# EAGLE library part CON_01X26 (library PP_Connectors)
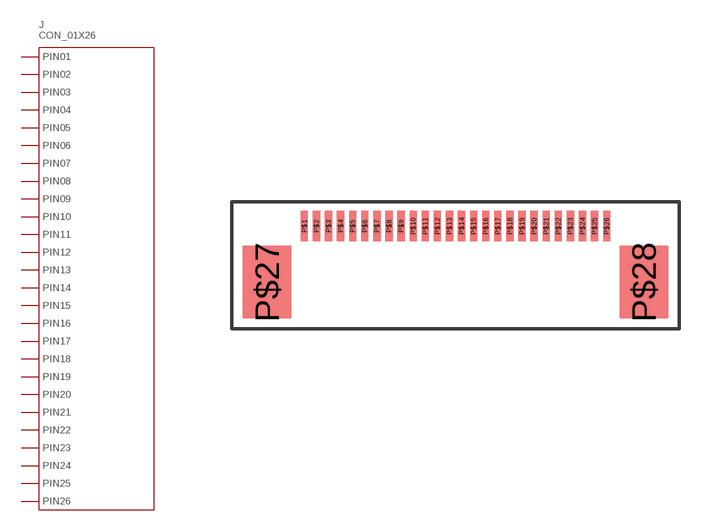
[diagram p33: symbol with the pads of ER-CON26HT-1; footprint ER-CON26HT-1]

Designator prefix J

## CON_01X26_ER-CON26HT-1  [ER-CON26HT-1]
P$1  1
P$2  2
P$3  3
P$4  4
P$5  5
P$6  6
P$7  7
P$8  8
P$9  9
P$10  10
P$11  11
P$12  12
P$13  13
P$14  14
P$15  15
P$16  16
P$17  17
P$18  18
P$19  19
P$20  20
P$21  21
P$22  22
P$23  23
P$24  24
P$25  25
P$26  26

## Footprint ER-CON26HT-1 (pad centres in mm)
smd 0.3 x 1.25: P$1 -6.25,0; P$2 -5.75,0; P$3 -5.25,0; P$4 -4.75,0; P$5 -4.25,0; P$6 -3.75,0; P$7 -3.25,0; P$8 -2.75,0; P$9 -2.25,0; P$10 -1.75,0; P$11 -1.25,0; P$12 -0.75,0; P$13 -0.25,0; P$14 0.25,0; P$15 0.75,0; P$16 1.25,0; P$17 1.75,0; P$18 2.25,0; P$19 2.75,0; P$20 3.25,0; P$21 3.75,0; P$22 4.25,0; P$23 4.75,0; P$24 5.25,0; P$25 5.75,0; P$26 6.25,0
smd 2 x 3: P$27 -7.79,-2.325; P$28 7.79,-2.325